# Altium footprint library 直插铝电解电容.PcbLib: 42 footprints (part 1 of 3)
Each footprint in its own frame and in the unit in brackets; x right, y up, seen from the top. Pads: shape width x height; smd on the part's side, far side on the other; paste and mask are expansions set on the pad; w line width, h text height; cw(c..) or ccw(c..) is an arc to the next point about the centre after c.
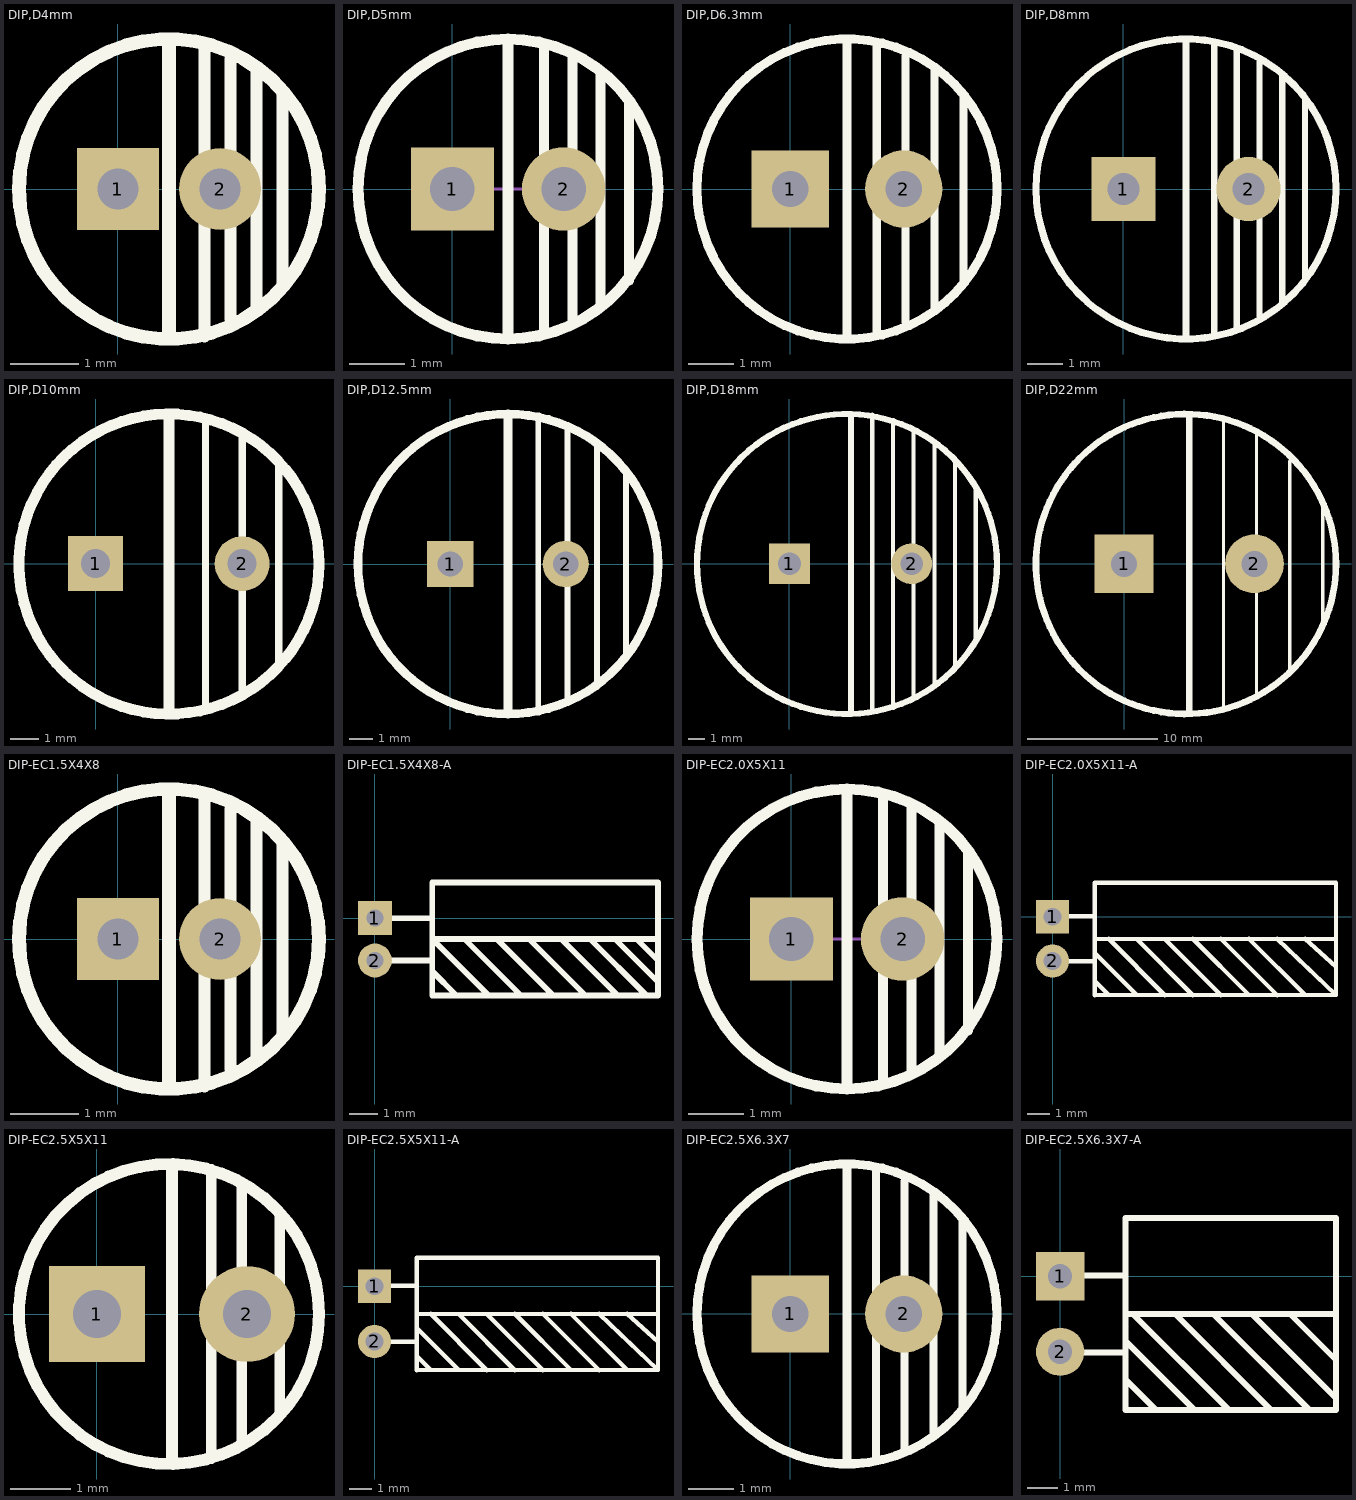
[diagram p0: the footprints below, top view; thin cyan lines are the x and y axes]

## DIP,D4mm [mm]
pads (2):
  rect 1.2x1.2 hole 0.6: 1(0,0)
  round 1.2 hole 0.6: 2(1.5,0)
Top Overlay:
  circle w0.2: c0.75,0 r2.2
  lines w0.178: 1.27,-2.159 1.27,2.032 ; 1.651,-1.905 1.651,1.905 ; 2.032,-1.778 2.032,1.778 ; 2.413,-1.397 2.413,1.397
  lines w0.2: 0.75,-2.159 0.75,-2 0.75,2.159
3D body "CAP 1.5X4X8.STEP": height 8.04, standoff -3.46, extent -1.26,-1.965 2.75,2.031

## DIP,D5mm [mm]
pads (2):
  rect 1.5x1.5 hole 0.8: 1(0,0)
  round 1.5 hole 0.8: 2(2,0)
Top Overlay:
  circle w0.2: c1,0 r2.7
  lines w0.178: 1.651,-2.54 1.651,2.54 ; 2.159,-2.413 2.159,2.413 ; 2.667,-2.032 2.667,2.032 ; 3.175,-1.651 3.175,1.524
  lines w0.2: 1,-2.667 1,-2 1,2.667
Mechanical 15:
  lines w0.05: 0.5,0 1.5,0
3D body "CAP 2.0X5X11.STEP": height 11.04, standoff -3.42, extent -1.512,-2.492 3.486,2.493

## DIP,D6.3mm [mm]
pads (2):
  rect 1.7x1.7 hole 0.8: 1(0,0)
  round 1.7 hole 0.8: 2(2.5,0)
Top Overlay:
  circle w0.2: c1.25,0 r3.3
  lines w0.178: 1.905,-3.175 1.905,3.175 ; 2.54,-2.921 2.54,2.921 ; 3.175,-2.667 3.175,2.667 ; 3.81,-2.032 3.81,2.032
  lines w0.2: 1.25,-3.226 1.25,3.277
3D body "CAP 2.5X6.3X11.2.STEP": height 11.23, standoff -3.38, extent -1.905,-3.15 4.405,3.15

## DIP,D8mm [mm]
pads (2):
  rect 1.8x1.8 hole 0.9: 1(0,0)
  round 1.8 hole 0.9: 2(3.5,0)
Top Overlay:
  circle w0.2: c1.75,0 r4.2
  lines w0.178: 2.54,-4.064 2.54,4.064 ; 3.175,-3.937 3.175,3.937 ; 3.81,-3.556 3.81,3.556 ; 4.445,-3.175 4.445,3.175 ; 5.08,-2.54 5.08,2.54
  lines w0.2: 1.75,-4.191 1.75,4 1.75,4.191
3D body "CAP 3.5X8X11.5.STEP": height 11.53, standoff -3.38, extent -2.255,-3.998 5.744,3.998

## DIP,D10mm [mm]
pads (2):
  rect 1.9x1.9 hole 1: 1(0,0)
  round 1.9 hole 1: 2(5.08,0)
Top Overlay:
  circle w0.381: c2.546,-0.013 r5.2
  lines w0.254: 3.81,-5.08 3.81,4.826 ; 5.08,-4.572 5.08,4.572 ; 6.35,-3.556 6.35,3.556
  lines w0.381: 2.546,-5.197 2.546,5.072 ; 2.546,-5.082 2.546,-5.075 ; 2.546,-4.07 2.546,-4.064 ; 2.546,-3.054 2.546,-3.05 2.546,-3.043 ; 2.546,-2.032 2.546,-2.038 ; 2.546,2.026 2.546,2.032 ; 2.546,4.058 2.546,4.064 ; 2.546,5.074 2.546,5.187 ; 2.546,-2.038 2.546,-2.038
3D body "CAP 5.0X10X20.STEP": height 20.03, standoff -3.38, extent -2.447,-4.924 7.541,5.073

## DIP,D12.5mm [mm]
pads (2):
  rect 2x2 hole 1.1: 1(0,0)
  round 2 hole 1.1: 2(5,0)
Top Overlay:
  circle w0.381: c2.5,0 r6.5
  lines w0.254: 3.81,-6.35 3.81,6.35 ; 5.08,-5.842 5.08,5.842 ; 6.35,-5.334 6.35,5.08 ; 7.62,-4.064 7.62,4.064
  lines w0.381: 2.5,-5.842 2.5,-6.35 2.5,6.35 ; 2.5,-5.08 2.5,-3.81 ; 2.5,-2.54 2.5,-1.778 ; 2.5,1.016 2.5,2.286 ; 2.5,3.048 2.5,4.064
3D body "CAP 5.0X12.5X25.STEP": height 25.04, standoff -3.37, extent -3.796,-6.241 8.688,6.241

## DIP,D18mm [mm]
pads (2):
  rect 2.5x2.5 hole 1.4: 1(0,0)
  round 2.5 hole 1.4: 2(7.5,0)
Top Overlay:
  circle w0.381: c3.532,-0.013 r9.2
  lines w0.254: 5.08,-8.89 5.08,9.144 ; 6.35,-8.636 6.35,8.636 ; 7.62,-8.128 7.62,8.128 ; 8.89,-7.366 8.89,7.366 ; 10.16,-6.35 10.16,6.35 ; 11.43,-4.826 11.43,4.572
  lines w0.381: 3.78,-9.144 3.78,9.144
3D body "CAP 7.5X18X35.5.STEP": height 35.54, standoff -3.37, extent -5.315,-8.987 12.676,8.988

## DIP,D22mm [mm]
pads (2):
  rect 4.5x4.5 hole 2: 1(0,0)
  round 4.5 hole 2: 2(10,0)
Top Overlay:
  circle w0.508: c4.752,-0.013 r11.5
  lines w0.254: 7.62,-11.176 7.62,10.922 ; 10.16,-9.906 10.16,10.16 ; 12.7,-8.382 12.7,7.874 ; 15.24,-4.572 15.24,4.318
  lines w0.508: 5,-11.25 5,11.25
3D body "CAP 10X22X40.STEP": height 40.03, standoff -3.38, extent -5.984,-10.948 16.005,11.048

## DIP-EC1.5X4X8 [mm]
pads (2):
  rect 1.2x1.2 hole 0.6: 1(0,0)
  round 1.2 hole 0.6: 2(1.5,0)
Top Overlay:
  circle w0.2: c0.75,0 r2.2
  lines w0.178: 1.27,-2.159 1.27,2.032 ; 1.651,-1.905 1.651,1.905 ; 2.032,-1.778 2.032,1.778 ; 2.413,-1.397 2.413,1.397
  lines w0.2: 0.75,-2.159 0.75,-2 0.75,2.159
3D body "CAP 1.5X4X8.STEP": height 8.04, standoff -3.46, extent -1.26,-1.965 2.75,2.031

## DIP-EC1.5X4X8-A [mm]
pads (2):
  rect 1.2x1.2 hole 0.6: 1(0,0)
  round 1.2 hole 0.6: 2(0,-1.5)
Top Overlay:
  lines w0.2: 0,-1.5 2,-1.5 ; 0,0 2,0 ; 2.032,-1.881 2.889,-2.738 2.921,-2.738 ; 2.921,-1.627 2.032,-0.738 ; 3.175,-0.738 5.175,-2.738 5.207,-2.738 ; 4.064,-2.738 4.032,-2.738 2.032,-0.738 ; 4.318,-0.738 6.318,-2.738 6.35,-2.738 ; 5.461,-0.738 7.461,-2.738 7.493,-2.738 ; 6.604,-0.738 8.604,-2.738 8.636,-2.738 ; 7.62,-0.738 9.597,-2.715 ccw(c9.652,-2.661) 9.652,-2.738 ; 8.509,-0.738 10.031,-2.26 cw(c10.03,-2.262) 10.032,-2.262 ; 9.271,-0.738 10.031,-1.498 cw(c10.03,-1.5) 10.032,-1.5 ; 10.032,-0.738 2.032,-0.738 ; 2.032,-2.738 10.032,-2.738 10.032,1.262 2.032,1.262 2.032,-2.738
3D body "CAP 1.5X4X8-H.STEP": height 4.02, standoff -3.48, extent -0.254,-2.762 9.996,1.248

## DIP-EC2.0X5X11 [mm]
pads (2):
  rect 1.5x1.5 hole 0.8: 1(0,0)
  round 1.5 hole 0.8: 2(2,0)
Top Overlay:
  circle w0.2: c1,0 r2.7
  lines w0.178: 1.651,-2.54 1.651,2.54 ; 2.159,-2.413 2.159,2.413 ; 2.667,-2.032 2.667,2.032 ; 3.175,-1.651 3.175,1.524
  lines w0.2: 1,-2.667 1,-2 1,2.667
Mechanical 15:
  lines w0.05: 0.5,0 1.5,0
3D body "CAP 2.0X5X11.STEP": height 11.04, standoff -3.42, extent -1.512,-2.492 3.486,2.493

## DIP-EC2.0X5X11-A [mm]
pads (2):
  rect 1.5x1.5 hole 0.8: 1(0,0)
  round 1.5 hole 0.8: 2(0,-2)
Top Overlay:
  lines w0.2: 0.762,-2.016 1.905,-2.016 ; 0.762,0.016 1.905,0.016 ; 1.905,-2.905 2.54,-3.54 ; 1.905,-1.635 3.81,-3.54 ; 1.905,-1.006 12.827,-1 ; 2.54,-1 5.08,-3.548 ; 3.81,-1.005 6.35,-3.547 ; 5.08,-1.004 7.62,-3.545 ; 6.35,-1 8.89,-3.54 ; 7.62,-1.003 10.16,-3.543 ; 8.89,-1.002 11.43,-3.541 ; 10.16,-1.001 12.827,-3.54 ; 11.43,-1.001 12.827,-2.27 ; 12.827,-3.54 1.905,-3.552 1.905,1.54 12.827,1.54 12.827,-3.54
3D body "CAP 2.0X5X11-H.STEP": height 5.02, standoff -3.48, extent -0.254,-3.521 12.956,1.489

## DIP-EC2.5X5X11 [mm]
pads (2):
  rect 1.6x1.6 hole 0.8: 1(0,0)
  round 1.6 hole 0.8: 2(2.5,0)
Top Overlay:
  circle w0.2: c1.2,0 r2.5
  lines w0.178: 1.905,-2.413 1.905,2.413 ; 2.413,-2.159 2.413,2.159 ; 3.048,-1.651 3.048,1.651
  lines w0.2: 1.25,-2.489 1.25,2.413
3D body "CAP 2.5X5X11.STEP": height 11.03, standoff -3.43, extent -1.243,-2.579 3.755,2.406

## DIP-EC2.5X5X11-A [mm]
pads (2):
  rect 1.5x1.5 hole 0.8: 1(0,0)
  round 1.5 hole 0.8: 2(0,-2.5)
Top Overlay:
  lines w0.2: 0.762,-2.516 1.905,-2.516 ; 0.762,0.016 1.905,0.016 ; 1.905,-3.155 2.54,-3.79 ; 1.905,-1.885 3.81,-3.79 ; 1.905,-1.256 12.827,-1.25 ; 2.54,-1.25 5.08,-3.798 ; 3.81,-1.255 6.35,-3.797 ; 5.08,-1.254 7.62,-3.795 ; 6.35,-1.25 8.89,-3.79 ; 7.62,-1.253 10.16,-3.793 ; 8.89,-1.252 11.43,-3.791 ; 10.16,-1.251 12.827,-3.79 ; 11.43,-1.251 12.827,-2.52 ; 12.827,-3.79 12.827,1.29 1.905,1.29 1.905,-3.802 12.827,-3.79
3D body "CAP 2.5X5X11-H.STEP": height 5.02, standoff -3.48, extent -0.255,-3.74 12.955,1.27

## DIP-EC2.5X6.3X7 [mm]
pads (2):
  rect 1.7x1.7 hole 0.8: 1(0,0)
  round 1.7 hole 0.8: 2(2.5,0)
Top Overlay:
  circle w0.2: c1.25,0 r3.3
  lines w0.178: 1.885,-3.175 1.885,3.175 ; 2.52,-3.048 2.52,2.921 ; 3.155,-2.667 3.155,2.667 ; 3.79,-2.032 3.79,2.032
  lines w0.2: 1.25,-3.302 1.25,3.251
3D body "CAP 2.5X6.3X7.STEP": height 7.03, standoff -3.38, extent -2.032,-3.15 4.278,3.15

## DIP-EC2.5X6.3X7-A [mm]
pads (2):
  rect 1.6x1.6 hole 0.8: 1(0,0)
  round 1.6 hole 0.8: 2(0,-2.5)
Top Overlay:
  lines w0.2: 0.762,-2.52 2.159,-2.52 ; 0.762,0.02 2.159,0.02 ; 2.159,-3.409 3.175,-4.425 ; 2.159,-2.139 4.445,-4.425 ; 2.159,-1.25 9.144,-1.25 ; 2.413,-1.25 5.588,-4.425 5.715,-4.425 ; 3.81,-1.25 6.985,-4.425 ; 5.08,-1.25 8.255,-4.425 ; 6.35,-1.25 9.144,-4.044 ; 7.62,-1.25 9.144,-2.774 ; 2.159,-4.425 9.144,-4.425 9.144,1.925 2.159,1.925 2.159,-4.425
3D body "CAP 2.5X6.3X7-H.STEP": height 6.32, standoff -3.48, extent -0.287,-4.385 8.923,1.925